# Altium footprint library LCD_Dev_PCB.PcbLib: 19 footprints (part 1 of 2)
Each footprint in its own frame and in the unit in brackets; x right, y up, seen from the top. Pads: shape width x height; smd on the part's side, far side on the other; paste and mask are expansions set on the pad; w line width, h text height; cw(c..) or ccw(c..) is an arc to the next point about the centre after c.
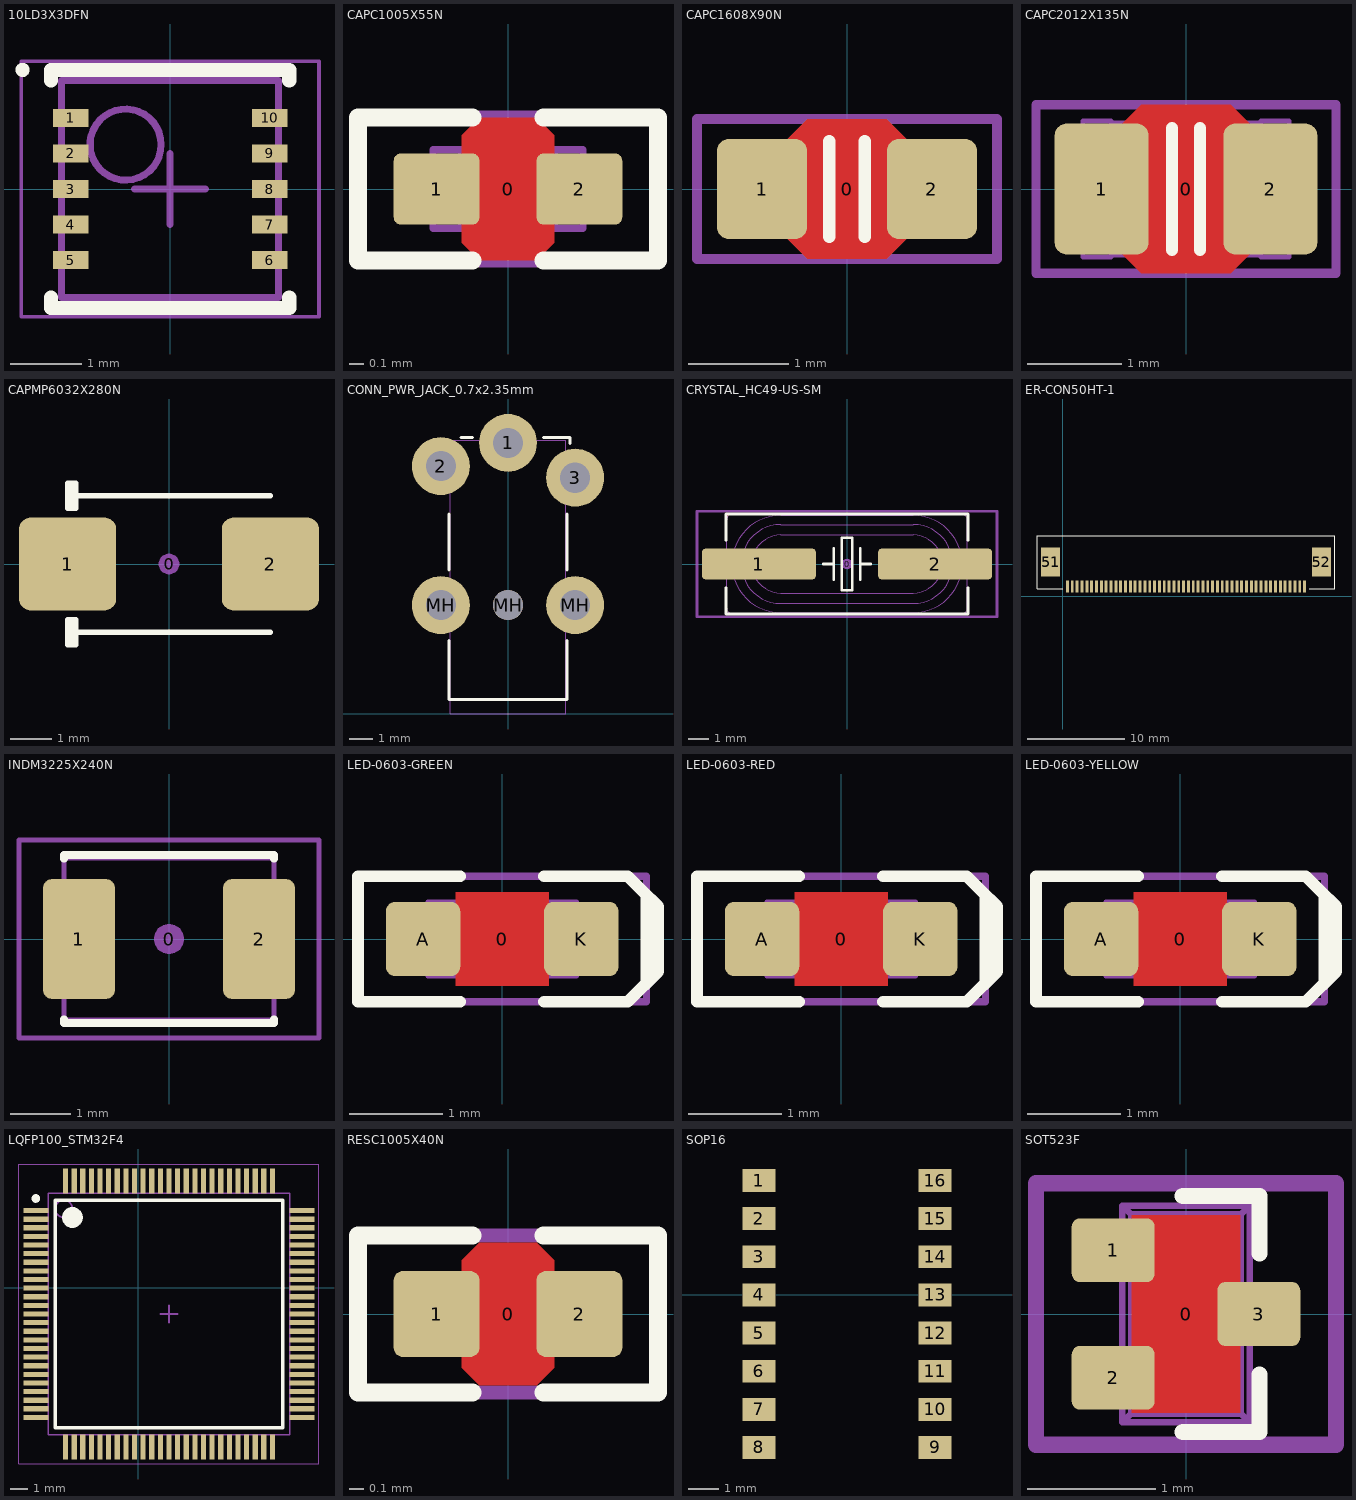
[diagram p0: the footprints below, top view; thin cyan lines are the x and y axes]

## 10LD3X3DFN [mm]
pads (10):
  rect 0.5x0.25 smd: 1(-1.4,1) 2(-1.4,0.5) 3(-1.4,0) 4(-1.4,-0.5) 5(-1.4,-1) 6(1.4,-1) 7(1.4,-0.5) 8(1.4,0) 9(1.4,0.5) 10(1.4,1)
Top Overlay:
  circle w0.1: c-2.075,1.675 r0.05
  lines w0.2: -1.675,-1.525 -1.675,-1.675 1.675,-1.675 1.675,-1.525 ; -1.675,1.525 -1.675,1.675 1.675,1.675 1.675,1.525
Mechanical 13:
  circle w0.1: c-0.625,0.625 r0.5
  lines w0.1: -1.525,-1.525 1.525,-1.525 1.525,1.525 -1.525,1.525 -1.525,-1.525
Mechanical 15:
  lines w0.05: -2.095,-1.8 2.095,-1.8 2.095,1.8 -2.095,1.8 -2.095,-1.8
  lines w0.1: -0.5,0 0.5,0 ; 0,-0.5 0,0.5
3D body "SON50P300X90-10N.step": height 0.9, standoff 0, extent -1.625,-1.525 1.625,1.525

## CAPC1005X55N [mm]
pads (3):
  round 0.2 on Mech15: 0(0,0)
  rrect20% 0.6x0.5 smd: 1(-0.5,0) 2(0.5,0)
Top Layer:
  pour cut-out: -0.325,0.375 -0.2,0.5 0.2,0.5 0.325,0.375 0.325,-0.375 0.2,-0.5 -0.2,-0.5 -0.325,-0.375
Top Overlay:
  lines w0.127: -0.25,-0.5 -1.05,-0.5 -1.05,0.5 -0.25,0.5 ; 0.25,-0.5 1.05,-0.5 1.05,0.5 0.25,0.5
Mechanical 13:
  lines w0.05: -0.325,-0.255 0.325,-0.255 ; -0.325,0.255 0.325,0.255 ; -0.525,-0.275 -0.325,-0.275 -0.325,0.275 -0.525,0.275 -0.525,-0.275 ; 0.325,-0.275 0.325,0.275 0.525,0.275 0.525,-0.275 0.325,-0.275
Mechanical 15:
  lines w0.1: -1.05,-0.5 1.05,-0.5 1.05,0.5 -1.05,0.5 -1.05,-0.5
3D body "CAP 0402 (1005 metric).STEP": height 0.55, standoff 0, extent -0.525,-0.275 0.525,0.275

## CAPC1608X90N [mm]
pads (3):
  round 0.254 on Mech15: 0(0,0)
  rrect25% 0.9x1 smd: 1(-0.85,0) 2(0.85,0)
Top Layer:
  pour cut-out: -0.6,0.5 -0.4,0.7 0.4,0.7 0.6,0.5 0.6,-0.5 0.4,-0.7 -0.4,-0.7 -0.6,-0.5
Top Overlay:
  lines w0.127: -0.178,-0.476 -0.178,0.476 ; 0.178,-0.476 0.178,0.476
Mechanical 13:
  lines w0.05: -0.55,-0.43 0.55,-0.43 ; -0.55,0.43 0.55,0.43 ; -0.85,-0.45 -0.55,-0.45 -0.55,0.45 -0.85,0.45 -0.85,-0.45 ; 0.55,-0.45 0.85,-0.45 0.85,0.45 0.55,0.45 0.55,-0.45
Mechanical 15:
  lines w0.1: -1.5,-0.7 1.5,-0.7 1.5,0.7 -1.5,0.7 -1.5,-0.7
3D body "CAP_0603.STEP": height 0.89, standoff -0.01, extent -0.85,-0.45 0.85,0.45

## CAPC2012X135N [mm]
pads (3):
  round 0.254 on Mech15: 0(0,0)
  rrect25% 1x1.4 smd: 1(-0.9,0) 2(0.9,0)
Top Layer:
  pour cut-out: -0.675,0.7 -0.475,0.9 0.475,0.9 0.675,0.7 0.675,-0.7 0.475,-0.9 -0.475,-0.9 -0.675,-0.7
Top Overlay:
  lines w0.127: -0.15,-0.651 -0.15,0.651 ; 0.15,-0.651 0.15,0.651
Mechanical 13:
  lines w0.05: -0.8,-0.705 0.8,-0.705 ; -0.8,0.705 0.8,0.705 ; -1.1,-0.725 -0.8,-0.725 -0.8,0.725 -1.1,0.725 -1.1,-0.725 ; 0.8,-0.725 0.8,0.725 1.1,0.725 1.1,-0.725 0.8,-0.725
Mechanical 15:
  lines w0.1: -1.6,-0.9 1.6,-0.9 1.6,0.9 -1.6,0.9 -1.6,-0.9
3D body "CAP_0805.STEP": height 1.34, standoff -0.01, extent -1.1,-0.725 1.1,0.725

## CAPMP6032X280N [mm]
pads (3):
  round 0.508 on Mech15: 0(0,0)
  rrect25% 2.35x2.25 smd: 1(-2.45,0) 2(2.45,0)
Top Overlay:
  lines w0.127: -2.45,-1.65 2.45,-1.65 ; -2.45,1.65 2.45,1.65 ; -2.35,-1.95 -2.35,-1.65 -2.35,-1.35 ; -2.35,1.35 -2.35,1.65 -2.35,1.95 ; -2.45,-1.95 -2.45,-1.35 -2.25,-1.35 -2.25,-1.65 -2.25,-1.95 -2.45,-1.95 ; -2.45,1.35 -2.45,1.95 -2.25,1.95 -2.25,1.65 -2.25,1.35 -2.45,1.35
3D body: height 2.8, standoff 0, extent -3,-1.6 3,1.6

## CONN_PWR_JACK_0.7x2.35mm [mm]
pads (6):
  round 2.5 hole 1.3: 1(0,11.7) 2(-2.9,10.7) 3(2.9,10.2) MH(-2.9,4.7) MH(2.9,4.7)
  round 1.3 hole 1.3 unplated: MH(0,4.7)
Top Overlay:
  lines w0.127: -2.54,3.175 -2.54,0.635 2.54,0.635 2.54,3.175 ; -2.54,6.223 -2.54,8.636 ; -2.032,11.938 -1.524,11.938 ; 1.524,11.938 2.667,11.938 2.667,11.684 ; 2.54,6.223 2.54,8.636
Mechanical 13:
  lines w0.05: -2.819,4.204 -2.819,5.194 ; -2.819,10.198 -2.819,11.189 ; -2.502,4.204 -3.073,4.204 -3.073,5.194 -2.502,5.194 ; -2.502,10.198 -3.073,10.198 -3.073,11.189 -2.502,11.189 ; -0.495,11.811 -0.495,11.938 0.495,11.938 0.495,11.811 ; 2.502,4.204 3.073,4.204 3.073,5.194 2.502,5.194 ; 2.502,9.715 3.073,9.715 3.073,10.706 2.502,10.706 ; 2.819,4.204 2.819,5.194 ; 2.819,9.715 2.819,10.706 ; -2.502,0 -2.502,11.811 2.502,11.811 2.502,0 -2.502,0
3D body "Conn_Kobiconn_163-4307-E.stp": height 5, standoff -2.5, extent -3.309,0 3.309,12.054

## CRYSTAL_HC49-US-SM [mm]
pads (3):
  round 0.508 on Mech15: 0(0,0)
  rrect25% 5.5x1.5 smd: 1(-4.25,0) 2(4.25,0)
Top Overlay:
  lines w0.127: -5.842,-1.143 -5.842,-2.413 5.842,-2.413 5.842,-1.143 ; -5.842,1.143 -5.842,2.413 5.842,2.413 5.842,1.143 ; -1.143,0 -0.635,0 ; -0.635,-0.762 -0.635,0.762 ; 0.635,-0.762 0.635,0.762 ; 0.635,0 1.143,0 ; -0.254,-1.27 -0.254,1.27 0.254,1.27 0.254,-1.27 -0.254,-1.27
Mechanical 13:
  lines w0.05: -5.8,-0.45 -6.4,-0.45 -6.4,0.45 -5.8,0.45 ; 5.8,-0.45 6.4,-0.45 6.4,0.45 5.8,0.45 ; -5.8,-2.165 ccw(c-5.55,-2.165) -5.55,-2.415 5.55,-2.415 ccw(c5.55,-2.165) 5.8,-2.165 5.8,2.165 ccw(c5.55,2.165) 5.55,2.415 -5.55,2.415 ccw(c-5.55,2.165) -5.8,2.165 -5.8,-2.165 ; -3.2,-2.35 cw(c-3.2,0) -3.2,2.35 3.2,2.35 cw(c3.2,0) 3.2,-2.35 -3.2,-2.35 ; -3.2,-1.9 cw(c-3.2,0) -3.2,1.9 3.2,1.9 cw(c3.2,0) 3.2,-1.9 -3.2,-1.9 ; -3.2,-1.4 cw(c-3.2,0) -3.2,1.4 3.2,1.4 cw(c3.2,0) 3.2,-1.4 -3.2,-1.4
Mechanical 15:
  lines w0.127: -7.239,-2.54 -7.239,2.54 7.239,2.54 7.239,-2.54 -7.239,-2.54
3D body "Crystal HC49_US-SM.STEP": height 4.29, standoff -0.01, extent -6.4,-2.415 6.4,2.415

## ER-CON50HT-1 [mm]
pads (52):
  rect 0.3x1.25 smd: 1(0.5,1) 2(1,1) 3(1.5,1) 4(2,1) 5(2.5,1) 6(3,1) 7(3.5,1) 8(4,1) 9(4.5,1) 10(5,1) 11(5.5,1) 12(6,1) 13(6.5,1) 14(7,1) 15(7.5,1) 16(8,1) 17(8.5,1) 18(9,1) 19(9.5,1) 20(10,1) 21(10.5,1) 22(11,1) 23(11.5,1) 24(12,1) 25(12.5,1) 26(13,1) 27(13.5,1) 28(14,1) 29(14.5,1) 30(15,1) 31(15.5,1) 32(16,1) 33(16.5,1) 34(17,1) 35(17.5,1) 36(18,1) 37(18.5,1) 38(19,1) 39(19.5,1) 40(20,1) 41(20.5,1) 42(21,1) 43(21.5,1) 44(22,1) 45(22.5,1) 46(23,1) 47(23.5,1) 48(24,1) 49(24.5,1) 50(25,1)
  rect 2x3 smd: 51(-1.25,3.5) 52(26.75,3.5)
Top Overlay:
  lines w0.1: 0,0.75 -2.6,0.75 -2.6,6.25 28.1,6.25 28.1,0.75 25.5,0.75
3D body "ER-CON50HT-1--3DModel-STEP-56544.STEP": height 2.06, standoff 0.01, extent -2.575,0.75 28.075,6.25

## INDM3225X240N [mm]
pads (3):
  round 0.508 on Mech15: 0(0,0)
  rrect25% 1.2x2 smd: 1(-1.5,0) 2(1.5,0)
Top Overlay:
  lines w0.127: -1.75,-1.338 -1.75,-1.4 1.75,-1.4 1.75,-1.338 ; -1.75,1.338 -1.75,1.4 1.75,1.4 1.75,1.338
Mechanical 13:
  lines w0.076: -1.75,-1.35 1.75,-1.35 1.75,1.35 -1.75,1.35 -1.75,-1.35
Mechanical 15:
  lines w0.076: -2.5,-1.65 2.5,-1.65 2.5,1.65 -2.5,1.65 -2.5,-1.65
3D body "INDM3225X240N.STEP": height 2.4, standoff 0, extent -1.79,-1.35 1.79,1.35

## LED-0603-GREEN [mm]
pads (3):
  round 0.254 on Mech15: 0(0,0)
  rrect25% 0.8x0.8 smd: A(-0.85,0) K(0.85,0)
Top Layer:
  pour cut-out: -0.5,0.5 0.5,0.5 0.5,-0.5 -0.5,-0.5
Top Overlay:
  lines w0.127: -0.45,-0.675 -1.55,-0.675 -1.55,0.675 -0.45,0.675 ; 0.45,-0.675 1.35,-0.675 1.55,-0.475 1.55,0.475 1.35,0.675 0.45,0.675 ; 1.5,0.525 1.675,0.35 1.675,-0.35 1.525,-0.5
Mechanical 13:
  lines w0.05: -0.6,-0.4 -0.6,0.399 0.6,0.4 0.6,-0.4 -0.6,-0.399 ; -0.505,-0.398 -0.505,0.398 ; -0.5,-0.4 -0.8,-0.4 -0.8,0.4 -0.5,0.4 ; 0.5,-0.4 0.8,-0.4 0.8,0.4 0.5,0.4 ; 0.505,-0.398 0.505,0.398 ; -0.599,-0.398 0.599,-0.398 0.599,0.398 -0.599,0.398 -0.599,-0.398
Mechanical 15:
  lines w0.076: -1.55,-0.675 -1.55,0.675 1.55,0.675 1.55,-0.675 -1.55,-0.675
3D body "LED 0603 APT1608 GREEN.STEP": height 0.75, standoff 0, extent -0.8,-0.4 0.8,0.4

## LED-0603-RED [mm]
pads (3):
  round 0.254 on Mech15: 0(0,0)
  rrect25% 0.8x0.8 smd: A(-0.85,0) K(0.85,0)
Top Layer:
  pour cut-out: -0.5,0.5 0.5,0.5 0.5,-0.5 -0.5,-0.5
Top Overlay:
  lines w0.127: -0.45,-0.675 -1.55,-0.675 -1.55,0.675 -0.45,0.675 ; 0.45,-0.675 1.35,-0.675 1.55,-0.475 1.55,0.475 1.35,0.675 0.45,0.675 ; 1.5,0.525 1.675,0.35 1.675,-0.35 1.525,-0.5
Mechanical 13:
  lines w0.05: -0.6,-0.4 -0.6,0.399 0.6,0.4 0.6,-0.4 -0.6,-0.399 ; -0.505,-0.398 -0.505,0.398 ; -0.5,-0.4 -0.8,-0.4 -0.8,0.4 -0.5,0.4 ; 0.5,-0.4 0.8,-0.4 0.8,0.4 0.5,0.4 ; 0.505,-0.398 0.505,0.398 ; -0.599,-0.398 0.599,-0.398 0.599,0.398 -0.599,0.398 -0.599,-0.398
Mechanical 15:
  lines w0.076: -1.55,-0.675 -1.55,0.675 1.55,0.675 1.55,-0.675 -1.55,-0.675
3D body "LED 0603 APT1608 RED.STEP": height 0.75, standoff 0, extent -0.8,-0.4 0.8,0.4

## LED-0603-YELLOW [mm]
pads (3):
  round 0.254 on Mech15: 0(0,0)
  rrect25% 0.8x0.8 smd: A(-0.85,0) K(0.85,0)
Top Layer:
  pour cut-out: -0.5,0.5 0.5,0.5 0.5,-0.5 -0.5,-0.5
Top Overlay:
  lines w0.127: -0.45,-0.675 -1.55,-0.675 -1.55,0.675 -0.45,0.675 ; 0.45,-0.675 1.35,-0.675 1.55,-0.475 1.55,0.475 1.35,0.675 0.45,0.675 ; 1.5,0.525 1.675,0.35 1.675,-0.35 1.525,-0.5
Mechanical 13:
  lines w0.05: -0.6,-0.4 -0.6,0.399 0.6,0.4 0.6,-0.4 -0.6,-0.399 ; -0.505,-0.398 -0.505,0.398 ; -0.5,-0.4 -0.8,-0.4 -0.8,0.4 -0.5,0.4 ; 0.5,-0.4 0.8,-0.4 0.8,0.4 0.5,0.4 ; 0.505,-0.398 0.505,0.398 ; -0.599,-0.398 0.599,-0.398 0.599,0.398 -0.599,0.398 -0.599,-0.398
Mechanical 15:
  lines w0.076: -1.55,-0.675 1.55,-0.675 1.55,0.675 -1.55,0.675 -1.55,-0.675
3D body "LED 0603 APT1608 YELLOW.STEP": height 0.75, standoff 0, extent -0.8,-0.4 0.8,0.4

## LQFP100_STM32F4 [mm]
pads (100):
  rect 1.45x0.3 smd: 1(-5.947,4.476) 2(-5.947,3.976) 3(-5.947,3.476) 4(-5.947,2.976) 5(-5.947,2.476) 6(-5.947,1.976) 7(-5.947,1.476) 8(-5.947,0.976) 9(-5.947,0.476) 10(-5.947,-0.024) 11(-5.947,-0.524) 12(-5.947,-1.024) 13(-5.947,-1.524) 14(-5.947,-2.024) 15(-5.947,-2.524) 16(-5.947,-3.024) 17(-5.947,-3.524) 18(-5.947,-4.024) 19(-5.947,-4.524) 20(-5.947,-5.024) 21(-5.947,-5.524) 22(-5.947,-6.024) 23(-5.947,-6.524) 24(-5.947,-7.024) 25(-5.947,-7.524) 51(9.503,-7.524) 52(9.503,-7.024) 53(9.503,-6.524) 54(9.503,-6.024) 55(9.503,-5.524) 56(9.503,-5.024) 57(9.503,-4.524) 58(9.503,-4.024) 59(9.503,-3.524) 60(9.503,-3.024) 61(9.503,-2.524) 62(9.503,-2.024) 63(9.503,-1.524) 64(9.503,-1.024) 65(9.503,-0.524) 66(9.503,-0.024) 67(9.503,0.476) 68(9.503,0.976) 69(9.503,1.476) 70(9.503,1.976) 71(9.503,2.476) 72(9.503,2.976) 73(9.503,3.476) 74(9.503,3.976) 75(9.503,4.476)
  rect 0.3x1.45 smd: 26(-4.222,-9.249) 27(-3.722,-9.249) 28(-3.222,-9.249) 29(-2.722,-9.249) 30(-2.222,-9.249) 31(-1.722,-9.249) 32(-1.222,-9.249) 33(-0.722,-9.249) 34(-0.222,-9.249) 35(0.278,-9.249) 36(0.778,-9.249) 37(1.278,-9.249) 38(1.778,-9.249) 39(2.278,-9.249) 40(2.778,-9.249) 41(3.278,-9.249) 42(3.778,-9.249) 43(4.278,-9.249) 44(4.778,-9.249) 45(5.278,-9.249) 46(5.778,-9.249) 47(6.278,-9.249) 48(6.778,-9.249) 49(7.278,-9.249) 50(7.778,-9.249) 76(7.778,6.201) 77(7.278,6.201) 78(6.778,6.201) 79(6.278,6.201) 80(5.778,6.201) 81(5.278,6.201) 82(4.778,6.201) 83(4.278,6.201) 84(3.778,6.201) 85(3.278,6.201) 86(2.778,6.201) 87(2.278,6.201) 88(1.778,6.201) 89(1.278,6.201) 90(0.778,6.201) 91(0.278,6.201) 92(-0.222,6.201) 93(-0.722,6.201) 94(-1.222,6.201) 95(-1.722,6.201) 96(-2.222,6.201) 97(-2.722,6.201) 98(-3.222,6.201) 99(-3.722,6.201) 100(-4.222,6.201)
Top Overlay:
  circle w0.25: c-5.947,5.176 r0.125
  circle w0.6: c-3.822,4.076 r0.3
  lines w0.2: -4.822,-8.124 -4.822,5.076 8.378,5.076 8.378,-8.124 -4.822,-8.124
Mechanical 13:
  circle w0.1: c-4.322,4.576 r0.5
  lines w0.1: -5.222,-8.524 -5.222,5.476 8.778,5.476 8.778,-8.524 -5.222,-8.524
Mechanical 15:
  lines w0.05: -6.922,-10.224 -6.922,7.176 10.478,7.176 10.478,-10.224 -6.922,-10.224
  lines w0.1: 1.278,-1.524 2.278,-1.524 ; 1.778,-2.024 1.778,-1.024
3D body "LQFP100_STM32F4.step": height 1.6, standoff 0, extent -6.222,-9.524 9.778,6.476

## RESC1005X40N [mm]
pads (3):
  round 0.2 on Mech15: 0(0,0)
  rrect20% 0.6x0.6 smd: 1(-0.5,0) 2(0.5,0)
Top Layer:
  pour cut-out: -0.325,0.375 -0.2,0.5 0.2,0.5 0.325,0.375 0.325,-0.375 0.2,-0.5 -0.2,-0.5 -0.325,-0.375
Top Overlay:
  lines w0.127: -0.25,-0.55 -1.05,-0.55 -1.05,0.55 -0.25,0.55 ; 0.25,-0.55 1.05,-0.55 1.05,0.55 0.25,0.55
Mechanical 13:
  lines w0.05: 0.225,-0.274 -0.225,-0.274 0.225,-0.274 ; -0.525,-0.275 -0.525,0.275 -0.225,0.275 -0.225,-0.275 -0.525,-0.275 ; -0.225,0.274 0.225,0.274 -0.225,0.274 ; 0.225,-0.275 0.525,-0.275 0.525,0.275 0.225,0.275 0.225,-0.275
Mechanical 15:
  lines w0.1: -1.05,-0.55 -1.05,0.55 1.05,0.55 1.05,-0.55 -1.05,-0.55
3D body "RES 0402 (1005 metric).STEP": height 0.4, standoff 0, extent -0.525,-0.275 0.525,0.275

## SOP16 [mm]
pads (16):
  rect 1.1x0.76 smd: 1(5.08,3.81) 2(5.08,2.54) 3(5.08,1.27) 4(5.08,0) 5(5.08,-1.27) 6(5.08,-2.54) 7(5.08,-3.81) 8(5.08,-5.08) 9(10.95,-5.08) 10(10.95,-3.81) 11(10.95,-2.54) 12(10.95,-1.27) 13(10.95,0) 14(10.95,1.27) 15(10.95,2.54) 16(10.95,3.81)
3D body "TLP291-4(SOP16).STEP": height 2.1, standoff 0, extent 4.515,-5.783 11.515,4.517

## SOT523F [mm]
pads (4):
  round 0.254 on Mech15: 0(0,0)
  rrect25% 0.65x0.5 smd: 1(-0.57,0.5) 2(-0.57,-0.5) 3(0.57,0)
Top Layer:
  pour cut-out: -0.425,0.775 0.425,0.775 0.425,-0.775 -0.425,-0.775
Top Overlay:
  lines w0.127: -0.025,-0.925 0.575,-0.925 0.575,-0.475 ; -0.025,0.925 0.575,0.925 0.575,0.475
  text "." at -1.3,0.5 h0.05
Mechanical 13:
  lines w0.05: -0.499,-0.675 -0.499,-0.849 ; -0.499,-0.325 -0.499,0.325 ; -0.499,0.675 -0.499,0.849 ; 0.499,-0.175 0.499,-0.849 ; 0.499,0.175 0.499,0.849 ; -0.499,-0.849 -0.43,-0.78 ; -0.499,-0.849 0.499,-0.849 ; -0.499,0.849 -0.43,0.78 ; -0.499,0.849 0.499,0.849 ; -0.43,-0.78 -0.43,0.78 ; -0.43,-0.78 0.43,-0.78 ; -0.43,0.78 0.43,0.78 ; 0.43,-0.78 0.499,-0.849 ; 0.43,-0.78 0.43,0.78 ; 0.43,0.78 0.499,0.849 ; -0.85,-0.675 -0.482,-0.675 -0.482,-0.325 -0.85,-0.325 -0.85,-0.675 ; -0.85,0.325 -0.482,0.325 -0.482,0.675 -0.85,0.675 -0.85,0.325 ; 0.482,-0.175 0.482,0.175 0.85,0.175 0.85,-0.175 0.482,-0.175
Mechanical 15:
  lines w0.127: -1.175,-1.025 -1.175,1.025 1.175,1.025 1.175,-1.025 -1.175,-1.025
3D body "SOT523F.STEP": height 0.8, standoff 0, extent -0.85,-0.849 0.85,0.849